# EAGLE library part TXU0304 (library BBS_Library)
Voltage Level Translator Unidirectional 1 Circuit 4 Channel 200Mbps 14-WQFN (3x2.5) https://www.ti.com/lit/ds/symlink/txu0304.pdf?ts=1646321006193&ref_url=https%253A%252F%252Fwww.mouser.com%252F
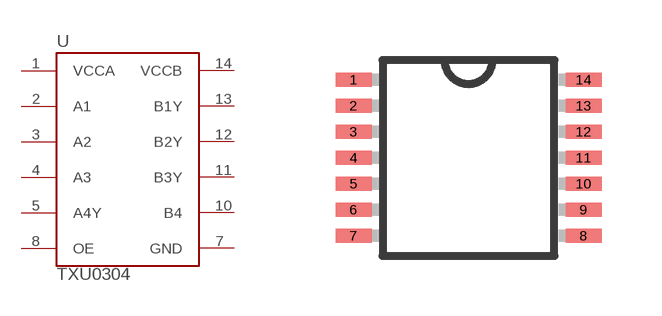
[diagram p6: symbol with the pads of TSSOP14; footprint TSSOP14]

Designator prefix U

## TXU0304 (DKPN: 296-TXU0304BQARCT-ND)  [TSSOP14]
1  VCCA
2  A1
3  A2
4  A3
5  A4Y
7  GND
8  OE
10  B4
11  B3Y
12  B2Y
13  B1Y
14  VCCB

## Footprint TSSOP14 (pad centres in mm)
14-Lead Thin Shrink Small Outline Package [TSSOP] Source: Analog Devices .. 780914713ADD8704_0.pdf
smd 0.9 x 0.35: 1 -2.875,1.95; 2 -2.875,1.3; 3 -2.875,0.65; 4 -2.875,0; 5 -2.875,-0.65; 6 -2.875,-1.3; 7 -2.875,-1.95; 8 2.875,-1.95; 9 2.875,-1.3; 10 2.875,-0.65; 11 2.875,0; 12 2.875,0.65; 13 2.875,1.3; 14 2.875,1.95